# EAGLE library part MOTORDRIVER-OLD (library KIKS)
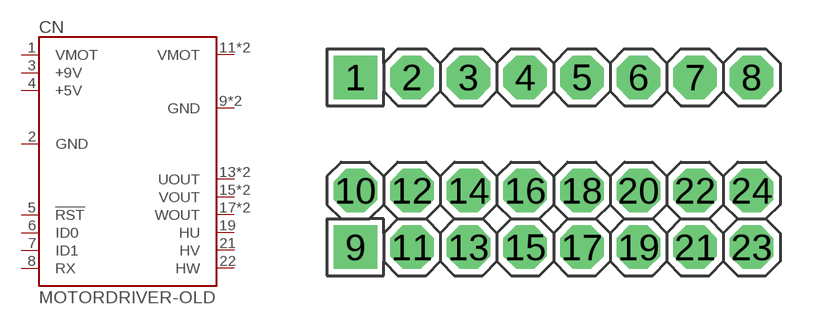
[diagram p1: symbol with the pads of PIN1X8+2X8; footprint PIN1X8+2X8]

Designator prefix CN

## MOTORDRIVER-OLD  [PIN1X8+2X8]
1  VMOT
2  GND
3  +9V
4  +5V
5  !RST
6  ID0
7  ID1
8  RX
9  GND
10  GND
11  VMOT
12  VMOT
13  UOUT
14  UOUT
15  VOUT
16  VOUT
17  WOUT
18  WOUT
19  HU
21  HV
22  HW

## Footprint PIN1X8+2X8 (pad centres in mm)
drill 1.3 square: 1 -8.89,0; 9 -8.89,-7.62
drill 1.3 octagon: 2 -6.35,0; 3 -3.81,0; 4 -1.27,0; 5 1.27,0; 6 3.81,0; 7 6.35,0; 8 8.89,0; 10 -8.89,-5.08; 11 -6.35,-7.62; 12 -6.35,-5.08; 13 -3.81,-7.62; 14 -3.81,-5.08; 15 -1.27,-7.62; 16 -1.27,-5.08; 17 1.27,-7.62; 18 1.27,-5.08; 19 3.81,-7.62; 20 3.81,-5.08; 21 6.35,-7.62; 22 6.35,-5.08; 23 8.89,-7.62; 24 8.89,-5.08